# EAGLE library part SMD_H-BRIDGE (library BayouBot)
An SMD H Bridge motor driver. http://www.digikey.com/product-detail/en/TB6552FNG,8,EL/TB6552FNG8ELCT-ND/1730120
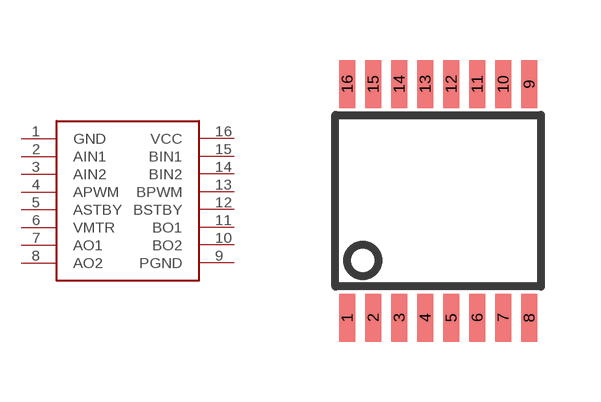
[diagram p2: symbol with the pads of SSOP16; footprint SSOP16]

Designator prefix -

## SMD_H-BRIDGE  [SSOP16]
1  GND
2  AIN1
3  AIN2
4  APWM
5  ASTBY
6  VMTR
7  AO1
8  AO2
9  PGND
10  BO2
11  BO1
12  BSTBY
13  BPWM
14  BIN2
15  BIN1
16  VCC

## Footprint SSOP16 (pad centres in mm)
Small Shrink Outline Package 16 pin
smd 0.4 x 1.2: 1 -2.275,-2.925; 2 -1.625,-2.925; 3 -0.975,-2.925; 4 -0.325,-2.925; 5 0.325,-2.925; 6 0.975,-2.925; 7 1.625,-2.925; 8 2.275,-2.925; 9 2.275,2.925; 10 1.625,2.925; 11 0.975,2.925; 12 0.325,2.925; 13 -0.325,2.925; 14 -0.975,2.925; 15 -1.625,2.925; 16 -2.275,2.925